# EAGLE library part HUT_6PLE_MITTE (library isysbus_modulsystem)
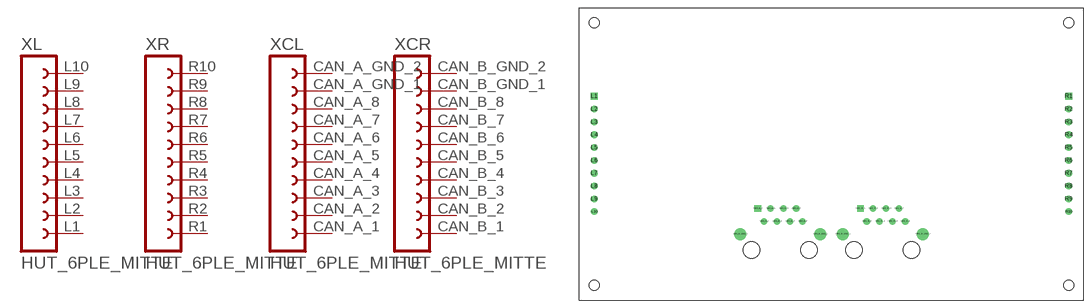
[diagram p9: symbol with the pads of HUT_6PLE_MITTE; footprint HUT_6PLE_MITTE]

Designator prefix X; gates L=CON_FEMALE_1X10 R=CON_FEMALE_1X10 CL=CON_FEMALE_1X10 CR=CON_FEMALE_1X10

## HUT_6PLE_MITTE  [HUT_6PLE_MITTE]
CAN_A_1  CL:1  pas
CAN_A_2  CL:2  pas
CAN_A_3  CL:3  pas
CAN_A_4  CL:4  pas
CAN_A_5  CL:5  pas
CAN_A_6  CL:6  pas
CAN_A_7  CL:7  pas
CAN_A_8  CL:8  pas
CAN_A_GND_1  CL:9  pas
CAN_A_GND_2  CL:10  pas
CAN_B_1  CR:1  pas
CAN_B_2  CR:2  pas
CAN_B_3  CR:3  pas
CAN_B_4  CR:4  pas
CAN_B_5  CR:5  pas
CAN_B_6  CR:6  pas
CAN_B_7  CR:7  pas
CAN_B_8  CR:8  pas
CAN_B_GND_1  CR:9  pas
CAN_B_GND_2  CR:10  pas
L1  L:1  pas
L2  L:2  pas
L3  L:3  pas
L4  L:4  pas
L5  L:5  pas
L6  L:6  pas
L7  L:7  pas
L8  L:8  pas
L9  L:9  pas
L10  L:10  pas
R1  R:1  pas
R2  R:2  pas
R3  R:3  pas
R4  R:4  pas
R5  R:5  pas
R6  R:6  pas
R7  R:7  pas
R8  R:8  pas
R9  R:9  pas
R10  R:10  pas

## Footprint HUT_6PLE_MITTE (pad centres in mm)
drill 0.8 square: CAN_A_1 -14.605,-10.795; CAN_B_1 5.715,-10.795; L1 -46.99,11.43; R1 46.99,11.43
drill 0.8 round: CAN_A_2 -13.335,-13.335; CAN_A_3 -12.065,-10.795; CAN_A_4 -10.795,-13.335; CAN_A_5 -9.525,-10.795; CAN_A_6 -8.255,-13.335; CAN_A_7 -6.985,-10.795; CAN_A_8 -5.715,-13.335; CAN_B_2 6.985,-13.335; CAN_B_3 8.255,-10.795; CAN_B_4 9.525,-13.335; CAN_B_5 10.795,-10.795; CAN_B_6 12.065,-13.335; CAN_B_7 13.335,-10.795; CAN_B_8 14.605,-13.335; L2 -46.99,8.89; L3 -46.99,6.35; L4 -46.99,3.81; L5 -46.99,1.27; L6 -46.99,-1.27; L7 -46.99,-3.81; L8 -46.99,-6.35; L9 -46.99,-8.89; L10 -46.99,-11.43; R2 46.99,8.89; R3 46.99,6.35; R4 46.99,3.81; R5 46.99,1.27; R6 46.99,-1.27; R7 46.99,-3.81; R8 46.99,-6.35; R9 46.99,-8.89; R10 46.99,-11.43
drill 1.6 round: CAN_A_GND_1 -18.098,-15.875; CAN_A_GND_2 -2.223,-15.875; CAN_B_GND_1 2.223,-15.875; CAN_B_GND_2 18.098,-15.875
hole 2 at -47,26
hole 2 at -47,-26
hole 2 at 47,-26
hole 2 at 47,26
hole 3.25 at -4.445,-19.05
hole 3.25 at -15.875,-19.05
hole 3.25 at 4.445,-19.05
hole 3.25 at 15.875,-19.05